# EAGLE library part ADS8866 (library ADS8866)
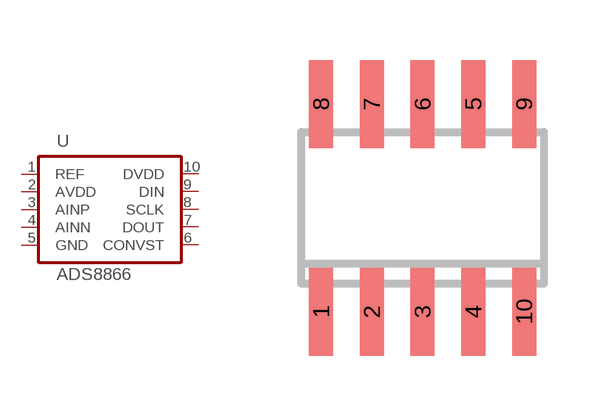
[diagram p0: symbol with the pads of SO-10; footprint SO-10]

Designator prefix -

## ADS8866  [SO-10]
1  REF  pwr
2  AVDD  pwr
3  AINP  in
4  AINN  in
5  GND  pwr
6  CONVST  in
7  DOUT  out
8  SCLK  in
9  DIN  in
10  DVDD  pwr

## Footprint SO-10 (pad centres in mm)
D (R-PDSO-G10) Plastic Small Outline Package
smd 0.6 x 2.2: 1 -1.905,-2.6; 2 -0.635,-2.6; 3 0.635,-2.6; 4 1.905,-2.6; 5 1.905,2.6; 6 0.635,2.6; 7 -0.635,2.6; 8 -1.905,2.6; 9 3.175,2.6; 10 3.175,-2.6